# EAGLE library part TOUCH10 (library mastrogippo)
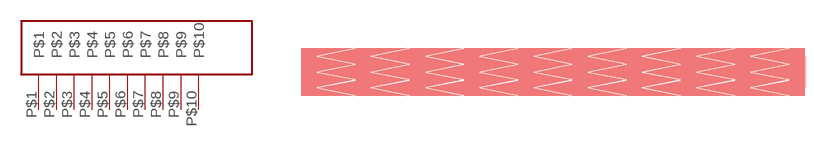
[diagram p29: symbol with the pads of TOUCH10CM; footprint TOUCH10CM]

Designator prefix -

## TOUCH10  [TOUCH10CM]
P$1  P$1
P$2  P$2
P$3  P$3
P$4  P$4
P$5  P$5
P$6  P$6
P$7  P$7
P$8  P$8
P$9  P$9
P$10  P$10

## Footprint TOUCH10CM (pad centres in mm)
smd 0.305 x 0.152: P$1 2.4,0.2; P$2 12.6,0.2; P$3 22.9,0.2; P$4 33.2,0.2; P$5 43.5,0.2; P$6 53.8,0.2; P$7 64.1,0.2; P$8 74.4,0.2; P$9 84.7,0.2; P$10 94.9,0.2